# EAGLE library part ECMF02-2AMX6 (library Bits_library_eagle)
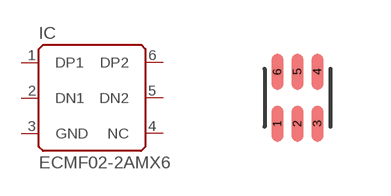
[diagram p14: symbol with the pads of QFN-6L; footprint QFN-6L]

Designator prefix IC

## ECMF02-2AMX6  [QFN-6L]
1  DP1
2  DN1
3  GND  pwr
4  NC  nc
5  DN2
6  DP2

## Footprint QFN-6L (pad centres in mm)
smd 0.3 x 0.9: 1 -0.5,-0.65; 2 0,-0.65; 3 0.5,-0.65; 4 0.5,0.65; 5 0,0.65; 6 -0.5,0.65